# Altium integrated library Microchip Power Management PWM Controller.IntLib: 36 symbols
Pins are listed as number, name and electrical type; pins without a type are passive.

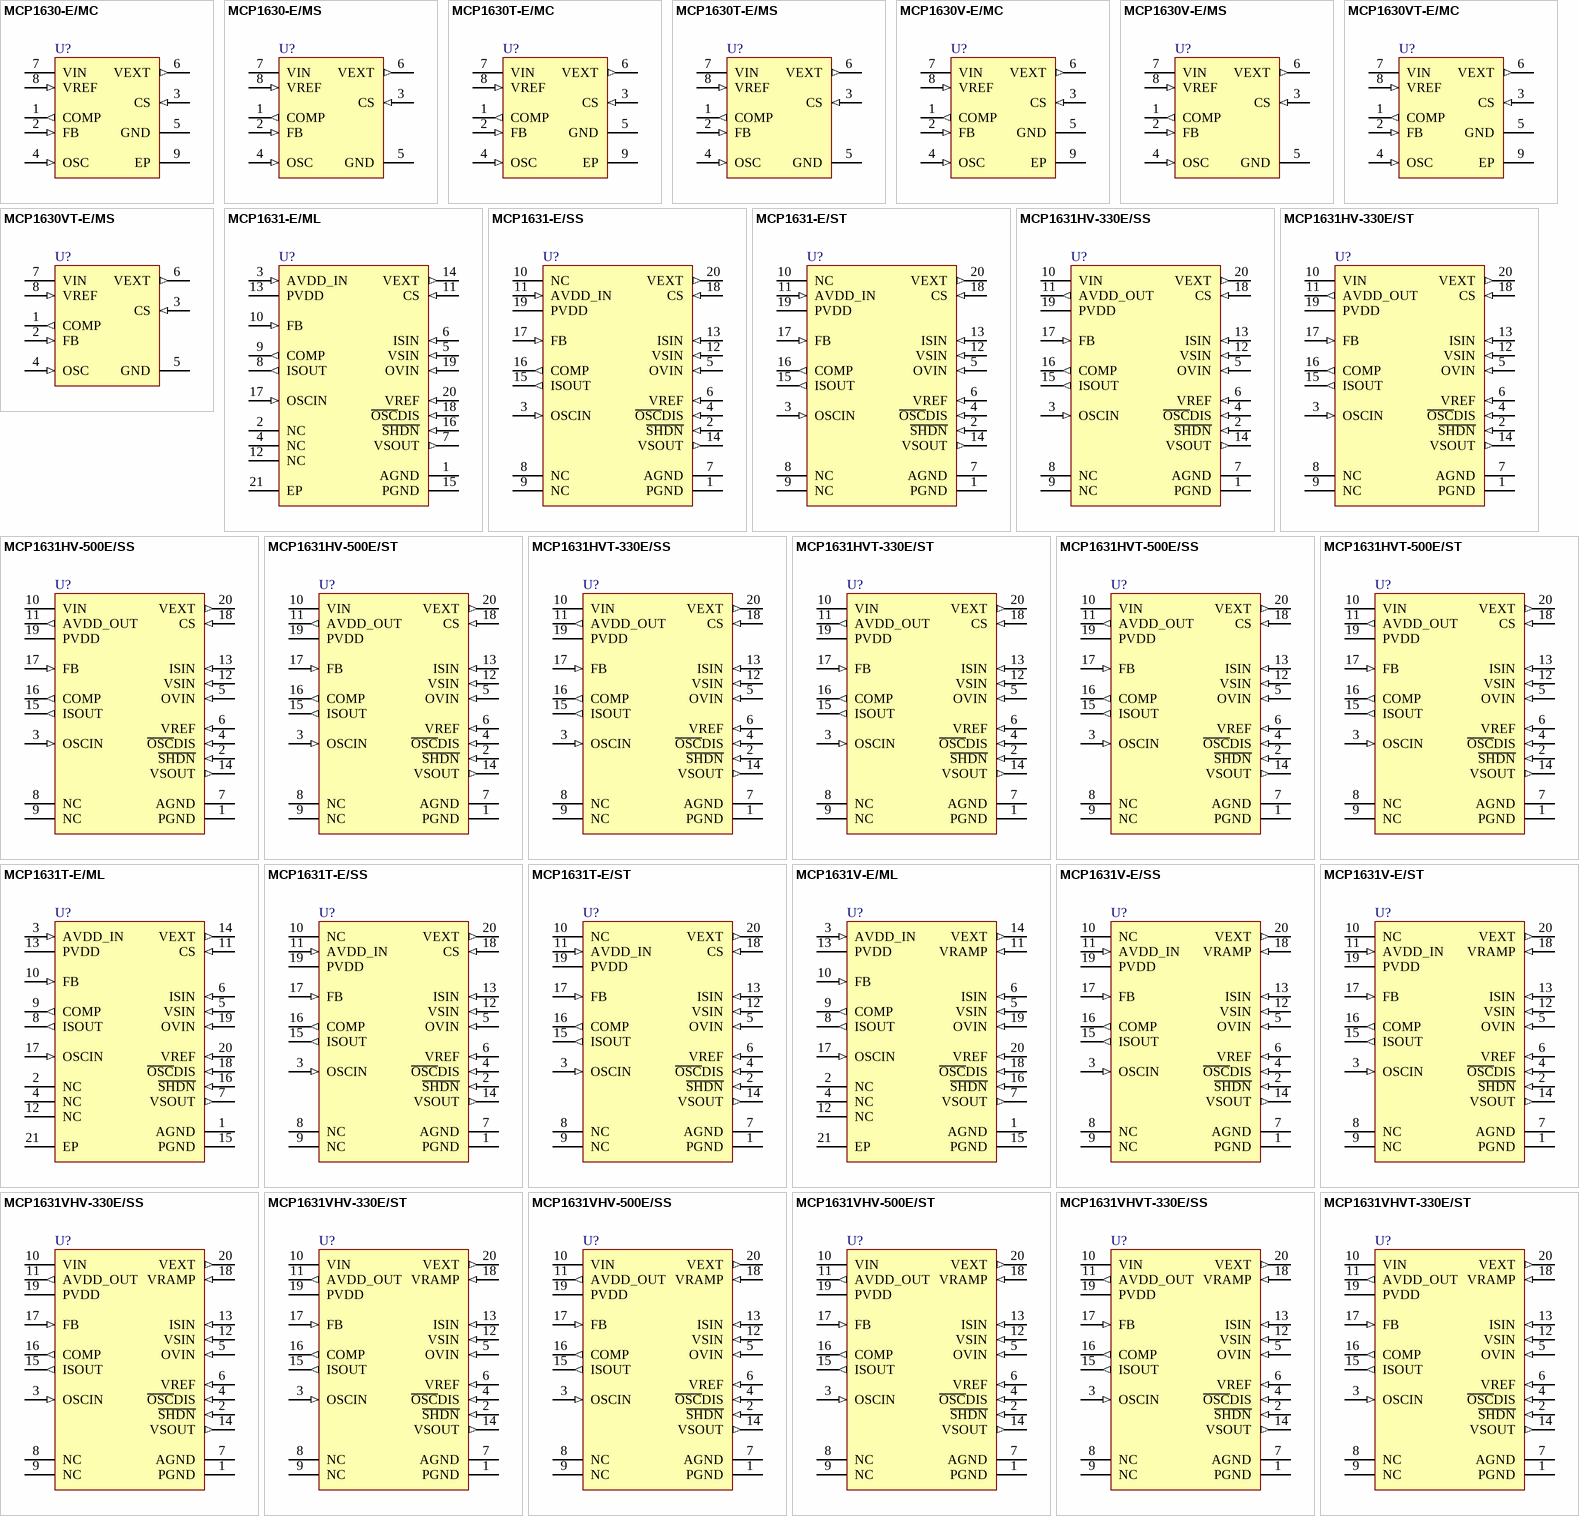
[diagram p0: symbols MCP1630-E/MC to MCP1631VHVT-330E/ST]

## MCP1630-E/MC
designator U?
High-Speed, Microcontroller-Adaptable, PWM, 8-Pin DFN, Extended Temperature; DatasheetVersion: revB, Jun-2005; PackageVersion: revBB, Aug-2009; PackageReference: DFN-MC8; PackageDescription: 8-Lead Plastic Dual Flat, No Lead Package (MC) - 2x3x0.9mm Body [DFN]; ComponentLink1Description: Manufacturer URL; ComponentLink1URL: http://www.microchip.com/; ComponentLink2Description: Datasheet; ComponentLink2URL: http://ww1.microchip.com/downloads/en/DeviceDoc/21896b.pdf; ComponentLink3Description: Package Specification; ComponentLink3URL: http://www.microchip.com/stellent/groups/techpub_sg/documents/packagingspec/en012702.pdf
footprint DFN-MC8 (SON, 8-Leads, Body 2x3mm, Pitch 0.5mm, Microchip Recommended)
pins: 1 COMP (out), 2 FB (in), 3 CS (in), 4 OSC (in), 5 GND (power), 6 VEXT (out), 7 VIN (power), 8 VREF (in), 9 EP (power)

## MCP1630-E/MS
designator U?
High-Speed, Microcontroller-Adaptable, PWM, 8-Pin MSOP, Extended Temperature; DatasheetVersion: revB, Jun-2005; PackageVersion: revBB, Aug-2009; PackageReference: MSOP-MS8; PackageDescription: 8-Lead Plastic Micro Small Outline Package (MS) [MSOP]; ComponentLink1Description: Manufacturer URL; ComponentLink1URL: http://www.microchip.com/; ComponentLink2Description: Datasheet; ComponentLink2URL: http://ww1.microchip.com/downloads/en/DeviceDoc/21896b.pdf; ComponentLink3Description: Package Specification; ComponentLink3URL: http://www.microchip.com/stellent/groups/techpub_sg/documents/packagingspec/en012702.pdf
footprint MSOP-MS8_N (TSOP, 8-Leads, Body 3x3mm, Pitch 0.65mm, IPC Medium Density)
footprint MSOP-MS8_L (TSOP, 8-Leads, Body 3x3mm, Pitch 0.65mm, IPC High Density)
footprint MSOP-MS8_M (TSOP, 8-Leads, Body 3x3mm, Pitch 0.65mm, IPC Low Density)
pins: 1 COMP (out), 2 FB (in), 3 CS (in), 4 OSC (in), 5 GND (power), 6 VEXT (out), 7 VIN (power), 8 VREF (in)

## MCP1630T-E/MC
designator U?
High-Speed, Microcontroller-Adaptable, PWM, 8-Pin DFN, Extended Temperature, Tape and Reel; DatasheetVersion: revB, Jun-2005; PackageVersion: revBB, Aug-2009; PackageReference: DFN-MC8; PackageDescription: 8-Lead Plastic Dual Flat, No Lead Package (MC) - 2x3x0.9mm Body [DFN]; ComponentLink1Description: Manufacturer URL; ComponentLink1URL: http://www.microchip.com/; ComponentLink2Description: Datasheet; ComponentLink2URL: http://ww1.microchip.com/downloads/en/DeviceDoc/21896b.pdf; ComponentLink3Description: Package Specification; ComponentLink3URL: http://www.microchip.com/stellent/groups/techpub_sg/documents/packagingspec/en012702.pdf
footprint DFN-MC8 (SON, 8-Leads, Body 2x3mm, Pitch 0.5mm, Microchip Recommended)
pins: 1 COMP (out), 2 FB (in), 3 CS (in), 4 OSC (in), 5 GND (power), 6 VEXT (out), 7 VIN (power), 8 VREF (in), 9 EP (power)

## MCP1630T-E/MS
designator U?
High-Speed, Microcontroller-Adaptable, PWM, 8-Pin MSOP, Extended Temperature, Tape and Reel; DatasheetVersion: revB, Jun-2005; PackageVersion: revBB, Aug-2009; PackageReference: MSOP-MS8; PackageDescription: 8-Lead Plastic Micro Small Outline Package (MS) [MSOP]; ComponentLink1Description: Manufacturer URL; ComponentLink1URL: http://www.microchip.com/; ComponentLink2Description: Datasheet; ComponentLink2URL: http://ww1.microchip.com/downloads/en/DeviceDoc/21896b.pdf; ComponentLink3Description: Package Specification; ComponentLink3URL: http://www.microchip.com/stellent/groups/techpub_sg/documents/packagingspec/en012702.pdf
footprint MSOP-MS8_N (TSOP, 8-Leads, Body 3x3mm, Pitch 0.65mm, IPC Medium Density)
footprint MSOP-MS8_L (TSOP, 8-Leads, Body 3x3mm, Pitch 0.65mm, IPC High Density)
footprint MSOP-MS8_M (TSOP, 8-Leads, Body 3x3mm, Pitch 0.65mm, IPC Low Density)
pins: 1 COMP (out), 2 FB (in), 3 CS (in), 4 OSC (in), 5 GND (power), 6 VEXT (out), 7 VIN (power), 8 VREF (in)

## MCP1630V-E/MC
designator U?
High-Speed, Microcontroller-Adaptable, PWM, Voltage & Current Mode Control, 8-Pin DFN, Extended Temperature; DatasheetVersion: revB, Jun-2005; PackageVersion: revBB, Aug-2009; PackageReference: DFN-MC8; PackageDescription: 8-Lead Plastic Dual Flat, No Lead Package (MC) - 2x3x0.9mm Body [DFN]; ComponentLink1Description: Manufacturer URL; ComponentLink1URL: http://www.microchip.com/; ComponentLink2Description: Datasheet; ComponentLink2URL: http://ww1.microchip.com/downloads/en/DeviceDoc/21896b.pdf; ComponentLink3Description: Package Specification; ComponentLink3URL: http://www.microchip.com/stellent/groups/techpub_sg/documents/packagingspec/en012702.pdf
footprint DFN-MC8 (SON, 8-Leads, Body 2x3mm, Pitch 0.5mm, Microchip Recommended)
pins: 1 COMP (out), 2 FB (in), 3 CS (in), 4 OSC (in), 5 GND (power), 6 VEXT (out), 7 VIN (power), 8 VREF (in), 9 EP (power)

## MCP1630V-E/MS
designator U?
High-Speed, Microcontroller-Adaptable, PWM, Voltage & Current Mode Control, 8-Pin MSOP, Extended Temperature; DatasheetVersion: revB, Jun-2005; PackageVersion: revBB, Aug-2009; PackageReference: MSOP-MS8; PackageDescription: 8-Lead Plastic Micro Small Outline Package (MS) [MSOP]; ComponentLink1Description: Manufacturer URL; ComponentLink1URL: http://www.microchip.com/; ComponentLink2Description: Datasheet; ComponentLink2URL: http://ww1.microchip.com/downloads/en/DeviceDoc/21896b.pdf; ComponentLink3Description: Package Specification; ComponentLink3URL: http://www.microchip.com/stellent/groups/techpub_sg/documents/packagingspec/en012702.pdf
footprint MSOP-MS8_N (TSOP, 8-Leads, Body 3x3mm, Pitch 0.65mm, IPC Medium Density)
footprint MSOP-MS8_L (TSOP, 8-Leads, Body 3x3mm, Pitch 0.65mm, IPC High Density)
footprint MSOP-MS8_M (TSOP, 8-Leads, Body 3x3mm, Pitch 0.65mm, IPC Low Density)
pins: 1 COMP (out), 2 FB (in), 3 CS (in), 4 OSC (in), 5 GND (power), 6 VEXT (out), 7 VIN (power), 8 VREF (in)

## MCP1630VT-E/MC
designator U?
High-Speed, Microcontroller-Adaptable, PWM, Voltage & Current Mode Control, 8-Pin DFN, Extended Temperature, Tape and Reel; DatasheetVersion: revB, Jun-2005; PackageVersion: revBB, Aug-2009; PackageReference: DFN-MC8; PackageDescription: 8-Lead Plastic Dual Flat, No Lead Package (MC) - 2x3x0.9mm Body [DFN]; ComponentLink1Description: Manufacturer URL; ComponentLink1URL: http://www.microchip.com/; ComponentLink2Description: Datasheet; ComponentLink2URL: http://ww1.microchip.com/downloads/en/DeviceDoc/21896b.pdf; ComponentLink3Description: Package Specification; ComponentLink3URL: http://www.microchip.com/stellent/groups/techpub_sg/documents/packagingspec/en012702.pdf
footprint DFN-MC8 (SON, 8-Leads, Body 2x3mm, Pitch 0.5mm, Microchip Recommended)
pins: 1 COMP (out), 2 FB (in), 3 CS (in), 4 OSC (in), 5 GND (power), 6 VEXT (out), 7 VIN (power), 8 VREF (in), 9 EP (power)

## MCP1630VT-E/MS
designator U?
High-Speed, Microcontroller-Adaptable, PWM, Voltage & Current Mode Control, 8-Pin MSOP, Extended Temperature, Tape and Reel; DatasheetVersion: revB, Jun-2005; PackageVersion: revBB, Aug-2009; PackageReference: MSOP-MS8; PackageDescription: 8-Lead Plastic Micro Small Outline Package (MS) [MSOP]; ComponentLink1Description: Manufacturer URL; ComponentLink1URL: http://www.microchip.com/; ComponentLink2Description: Datasheet; ComponentLink2URL: http://ww1.microchip.com/downloads/en/DeviceDoc/21896b.pdf; ComponentLink3Description: Package Specification; ComponentLink3URL: http://www.microchip.com/stellent/groups/techpub_sg/documents/packagingspec/en012702.pdf
footprint MSOP-MS8_N (TSOP, 8-Leads, Body 3x3mm, Pitch 0.65mm, IPC Medium Density)
footprint MSOP-MS8_L (TSOP, 8-Leads, Body 3x3mm, Pitch 0.65mm, IPC High Density)
footprint MSOP-MS8_M (TSOP, 8-Leads, Body 3x3mm, Pitch 0.65mm, IPC Low Density)
pins: 1 COMP (out), 2 FB (in), 3 CS (in), 4 OSC (in), 5 GND (power), 6 VEXT (out), 7 VIN (power), 8 VREF (in)

## MCP1631-E/ML
designator U?
High-Speed, PWM, 2MHz, Peak Current Mode Control, 20-Pin QFN, Extended Temperature; DatasheetVersion: revB, Oct-2008; PackageVersion: revBB, Aug-2009; PackageReference: QFN-ML20; PackageDescription: 20-Lead Plastic Quad Flat, No Lead Package (ML) - 4x4x0.9 mm Body [QFN]; ComponentLink1Description: Manufacturer URL; ComponentLink1URL: http://www.microchip.com/; ComponentLink2Description: Datasheet; ComponentLink2URL: http://ww1.microchip.com/downloads/en/DeviceDoc/22063b.pdf; ComponentLink3Description: Package Specification; ComponentLink3URL: http://www.microchip.com/stellent/groups/techpub_sg/documents/packagingspec/en012702.pdf
footprint QFN-ML20_N (QFN, 20-Leads, Body 4x4mm, Pitch 0.5mm, Thermal Pad 2.8x2.8mm, IPC Medium Density)
footprint QFN-ML20_L (QFN, 20-Leads, Body 4x4mm, Pitch 0.5mm, Thermal Pad 2.8x2.8mm, IPC High Density)
footprint QFN-ML20_M (QFN, 20-Leads, Body 4x4mm, Pitch 0.5mm, Thermal Pad 2.8x2.8mm, IPC Low Density)
pins: 1 AGND (power), 2 NC, 3 AVDD_IN (in), 4 NC, 5 VSIN (in), 6 ISIN (in), 7 VSOUT (out), 8 ISOUT (out), 9 COMP (out), 10 FB (in), 11 CS (in), 12 NC, 13 PVDD (power), 14 VEXT (out), 15 PGND (power), 16 ~{SHDN} (in), 17 OSCIN (in), 18 ~{OSC}DIS (in), 19 OVIN (in), 20 VREF (in), 21 EP (power)

## MCP1631-E/SS
designator U?
High-Speed, PWM, 2MHz, Peak Current Mode Control, 20-Pin SSOP 208mil, Extended Temperature; DatasheetVersion: revB, Oct-2008; PackageVersion: revBB, Aug-2009; PackageReference: SSOP-SS20; PackageDescription: 20-Lead Plastic Shrink Small Outline (SS) - 5.3mm Body [SSOP]; Code_JEDEC: MO-150; ComponentLink1Description: Manufacturer URL; ComponentLink1URL: http://www.microchip.com/; ComponentLink2Description: Datasheet; ComponentLink2URL: http://ww1.microchip.com/downloads/en/DeviceDoc/22063b.pdf; ComponentLink3Description: Package Specification; ComponentLink3URL: http://www.microchip.com/stellent/groups/techpub_sg/documents/packagingspec/en012702.pdf
footprint SSOP-SS20_N (SOP, 20-Leads, Body 7.2x5.2mm, Pitch 0.65mm, IPC Medium Density)
footprint SSOP-SS20_L (SOP, 20-Leads, Body 7.2x5.2mm, Pitch 0.65mm, IPC High Density)
footprint SSOP-SS20_M (SOP, 20-Leads, Body 7.2x5.2mm, Pitch 0.65mm, IPC Low Density)
pins: 1 PGND (power), 2 ~{SHDN} (in), 3 OSCIN (in), 4 ~{OSC}DIS (in), 5 OVIN (in), 6 VREF (in), 7 AGND (power), 8 NC, 9 NC, 10 NC, 11 AVDD_IN (in), 12 VSIN (in), 13 ISIN (in), 14 VSOUT (out), 15 ISOUT (out), 16 COMP (out), 17 FB (in), 18 CS (in), 19 PVDD (power), 20 VEXT (out)

## MCP1631-E/ST
designator U?
High-Speed, PWM, 2MHz, Peak Current Mode Control, 20-Pin TSSOP, Extended Temperature; DatasheetVersion: revB, Oct-2008; PackageVersion: revBB, Aug-2009; PackageReference: TSSOP-ST20; PackageDescription: 20-Lead Plastic Thin Shrink Small Outline (ST) - 4.4mm Body [TSSOP]; Code_JEDEC: MO-153-AC; ComponentLink1Description: Manufacturer URL; ComponentLink1URL: http://www.microchip.com/; ComponentLink2Description: Datasheet; ComponentLink2URL: http://ww1.microchip.com/downloads/en/DeviceDoc/22063b.pdf; ComponentLink3Description: Package Specification; ComponentLink3URL: http://www.microchip.com/stellent/groups/techpub_sg/documents/packagingspec/en012702.pdf
footprint TSSOP-ST20_N (TSOP, 20-Leads, Body 6.5x4.4mm, Pitch 0.65mm, IPC Medium Density)
footprint TSSOP-ST20_L (TSOP, 20-Leads, Body 6.5x4.4mm, Pitch 0.65mm, IPC High Density)
footprint TSSOP-ST20_M (TSOP, 20-Leads, Body 6.5x4.4mm, Pitch 0.65mm, IPC Low Density)
pins: 1 PGND (power), 2 ~{SHDN} (in), 3 OSCIN (in), 4 ~{OSC}DIS (in), 5 OVIN (in), 6 VREF (in), 7 AGND (power), 8 NC, 9 NC, 10 NC, 11 AVDD_IN (in), 12 VSIN (in), 13 ISIN (in), 14 VSOUT (out), 15 ISOUT (out), 16 COMP (out), 17 FB (in), 18 CS (in), 19 PVDD (power), 20 VEXT (out)

## MCP1631HV-330E/SS
designator U?
High-Speed, PWM, 2MHz, Current Mode, 20-Pin SSOP 208mil, Extended Temperature; DatasheetVersion: revB, Oct-2008; PackageVersion: revBB, Aug-2009; PackageReference: SSOP-SS20; PackageDescription: 20-Lead Plastic Shrink Small Outline (SS) - 5.3mm Body [SSOP]; Code_JEDEC: MO-150; ComponentLink1Description: Manufacturer URL; ComponentLink1URL: http://www.microchip.com/; ComponentLink2Description: Datasheet; ComponentLink2URL: http://ww1.microchip.com/downloads/en/DeviceDoc/22063b.pdf; ComponentLink3Description: Package Specification; ComponentLink3URL: http://www.microchip.com/stellent/groups/techpub_sg/documents/packagingspec/en012702.pdf
footprint SSOP-SS20_N (SOP, 20-Leads, Body 7.2x5.2mm, Pitch 0.65mm, IPC Medium Density)
footprint SSOP-SS20_L (SOP, 20-Leads, Body 7.2x5.2mm, Pitch 0.65mm, IPC High Density)
footprint SSOP-SS20_M (SOP, 20-Leads, Body 7.2x5.2mm, Pitch 0.65mm, IPC Low Density)
pins: 1 PGND (power), 2 ~{SHDN} (in), 3 OSCIN (in), 4 ~{OSC}DIS (in), 5 OVIN (in), 6 VREF (in), 7 AGND (power), 8 NC, 9 NC, 10 VIN (power), 11 AVDD_OUT (out), 12 VSIN (in), 13 ISIN (in), 14 VSOUT (out), 15 ISOUT (out), 16 COMP (out), 17 FB (in), 18 CS (in), 19 PVDD (power), 20 VEXT (out)

## MCP1631HV-330E/ST
designator U?
High-Speed, PWM, 2MHz, Current Mode, 20-Pin TSSOP, Extended Temperature; DatasheetVersion: revB, Oct-2008; PackageVersion: revBB, Aug-2009; PackageReference: TSSOP-ST20; PackageDescription: 20-Lead Plastic Thin Shrink Small Outline (ST) - 4.4mm Body [TSSOP]; Code_JEDEC: MO-153-AC; ComponentLink1Description: Manufacturer URL; ComponentLink1URL: http://www.microchip.com/; ComponentLink2Description: Datasheet; ComponentLink2URL: http://ww1.microchip.com/downloads/en/DeviceDoc/22063b.pdf; ComponentLink3Description: Package Specification; ComponentLink3URL: http://www.microchip.com/stellent/groups/techpub_sg/documents/packagingspec/en012702.pdf
footprint TSSOP-ST20_N (TSOP, 20-Leads, Body 6.5x4.4mm, Pitch 0.65mm, IPC Medium Density)
footprint TSSOP-ST20_L (TSOP, 20-Leads, Body 6.5x4.4mm, Pitch 0.65mm, IPC High Density)
footprint TSSOP-ST20_M (TSOP, 20-Leads, Body 6.5x4.4mm, Pitch 0.65mm, IPC Low Density)
pins: 1 PGND (power), 2 ~{SHDN} (in), 3 OSCIN (in), 4 ~{OSC}DIS (in), 5 OVIN (in), 6 VREF (in), 7 AGND (power), 8 NC, 9 NC, 10 VIN (power), 11 AVDD_OUT (out), 12 VSIN (in), 13 ISIN (in), 14 VSOUT (out), 15 ISOUT (out), 16 COMP (out), 17 FB (in), 18 CS (in), 19 PVDD (power), 20 VEXT (out)

## MCP1631HV-500E/SS
designator U?
High-Speed, PWM, 2MHz, Current Mode, 20-Pin SSOP 208mil, Extended Temperature; DatasheetVersion: revB, Oct-2008; PackageVersion: revBB, Aug-2009; PackageReference: SSOP-SS20; PackageDescription: 20-Lead Plastic Shrink Small Outline (SS) - 5.3mm Body [SSOP]; Code_JEDEC: MO-150; ComponentLink1Description: Manufacturer URL; ComponentLink1URL: http://www.microchip.com/; ComponentLink2Description: Datasheet; ComponentLink2URL: http://ww1.microchip.com/downloads/en/DeviceDoc/22063b.pdf; ComponentLink3Description: Package Specification; ComponentLink3URL: http://www.microchip.com/stellent/groups/techpub_sg/documents/packagingspec/en012702.pdf
footprint SSOP-SS20_N (SOP, 20-Leads, Body 7.2x5.2mm, Pitch 0.65mm, IPC Medium Density)
footprint SSOP-SS20_L (SOP, 20-Leads, Body 7.2x5.2mm, Pitch 0.65mm, IPC High Density)
footprint SSOP-SS20_M (SOP, 20-Leads, Body 7.2x5.2mm, Pitch 0.65mm, IPC Low Density)
pins: 1 PGND (power), 2 ~{SHDN} (in), 3 OSCIN (in), 4 ~{OSC}DIS (in), 5 OVIN (in), 6 VREF (in), 7 AGND (power), 8 NC, 9 NC, 10 VIN (power), 11 AVDD_OUT (out), 12 VSIN (in), 13 ISIN (in), 14 VSOUT (out), 15 ISOUT (out), 16 COMP (out), 17 FB (in), 18 CS (in), 19 PVDD (power), 20 VEXT (out)

## MCP1631HV-500E/ST
designator U?
High-Speed, PWM, 2MHz, Current Mode, 20-Pin TSSOP, Extended Temperature; DatasheetVersion: revB, Oct-2008; PackageVersion: revBB, Aug-2009; PackageReference: TSSOP-ST20; PackageDescription: 20-Lead Plastic Thin Shrink Small Outline (ST) - 4.4mm Body [TSSOP]; Code_JEDEC: MO-153-AC; ComponentLink1Description: Manufacturer URL; ComponentLink1URL: http://www.microchip.com/; ComponentLink2Description: Datasheet; ComponentLink2URL: http://ww1.microchip.com/downloads/en/DeviceDoc/22063b.pdf; ComponentLink3Description: Package Specification; ComponentLink3URL: http://www.microchip.com/stellent/groups/techpub_sg/documents/packagingspec/en012702.pdf
footprint TSSOP-ST20_N (TSOP, 20-Leads, Body 6.5x4.4mm, Pitch 0.65mm, IPC Medium Density)
footprint TSSOP-ST20_L (TSOP, 20-Leads, Body 6.5x4.4mm, Pitch 0.65mm, IPC High Density)
footprint TSSOP-ST20_M (TSOP, 20-Leads, Body 6.5x4.4mm, Pitch 0.65mm, IPC Low Density)
pins: 1 PGND (power), 2 ~{SHDN} (in), 3 OSCIN (in), 4 ~{OSC}DIS (in), 5 OVIN (in), 6 VREF (in), 7 AGND (power), 8 NC, 9 NC, 10 VIN (power), 11 AVDD_OUT (out), 12 VSIN (in), 13 ISIN (in), 14 VSOUT (out), 15 ISOUT (out), 16 COMP (out), 17 FB (in), 18 CS (in), 19 PVDD (power), 20 VEXT (out)

## MCP1631HVT-330E/SS
designator U?
High-Speed, PWM, 2MHz, Current Mode, 20-Pin SSOP 208mil, Extended Temperature, Tape and Reel; DatasheetVersion: revB, Oct-2008; PackageVersion: revBB, Aug-2009; PackageReference: SSOP-SS20; PackageDescription: 20-Lead Plastic Shrink Small Outline (SS) - 5.3mm Body [SSOP]; Code_JEDEC: MO-150; ComponentLink1Description: Manufacturer URL; ComponentLink1URL: http://www.microchip.com/; ComponentLink2Description: Datasheet; ComponentLink2URL: http://ww1.microchip.com/downloads/en/DeviceDoc/22063b.pdf; ComponentLink3Description: Package Specification; ComponentLink3URL: http://www.microchip.com/stellent/groups/techpub_sg/documents/packagingspec/en012702.pdf
footprint SSOP-SS20_N (SOP, 20-Leads, Body 7.2x5.2mm, Pitch 0.65mm, IPC Medium Density)
footprint SSOP-SS20_L (SOP, 20-Leads, Body 7.2x5.2mm, Pitch 0.65mm, IPC High Density)
footprint SSOP-SS20_M (SOP, 20-Leads, Body 7.2x5.2mm, Pitch 0.65mm, IPC Low Density)
pins: 1 PGND (power), 2 ~{SHDN} (in), 3 OSCIN (in), 4 ~{OSC}DIS (in), 5 OVIN (in), 6 VREF (in), 7 AGND (power), 8 NC, 9 NC, 10 VIN (power), 11 AVDD_OUT (out), 12 VSIN (in), 13 ISIN (in), 14 VSOUT (out), 15 ISOUT (out), 16 COMP (out), 17 FB (in), 18 CS (in), 19 PVDD (power), 20 VEXT (out)

## MCP1631HVT-330E/ST
designator U?
High-Speed, PWM, 2MHz, Current Mode, 20-Pin TSSOP, Extended Temperature, Tape and Reel; DatasheetVersion: revB, Oct-2008; PackageVersion: revBB, Aug-2009; PackageReference: TSSOP-ST20; PackageDescription: 20-Lead Plastic Thin Shrink Small Outline (ST) - 4.4mm Body [TSSOP]; Code_JEDEC: MO-153-AC; ComponentLink1Description: Manufacturer URL; ComponentLink1URL: http://www.microchip.com/; ComponentLink2Description: Datasheet; ComponentLink2URL: http://ww1.microchip.com/downloads/en/DeviceDoc/22063b.pdf; ComponentLink3Description: Package Specification; ComponentLink3URL: http://www.microchip.com/stellent/groups/techpub_sg/documents/packagingspec/en012702.pdf
footprint TSSOP-ST20_N (TSOP, 20-Leads, Body 6.5x4.4mm, Pitch 0.65mm, IPC Medium Density)
footprint TSSOP-ST20_L (TSOP, 20-Leads, Body 6.5x4.4mm, Pitch 0.65mm, IPC High Density)
footprint TSSOP-ST20_M (TSOP, 20-Leads, Body 6.5x4.4mm, Pitch 0.65mm, IPC Low Density)
pins: 1 PGND (power), 2 ~{SHDN} (in), 3 OSCIN (in), 4 ~{OSC}DIS (in), 5 OVIN (in), 6 VREF (in), 7 AGND (power), 8 NC, 9 NC, 10 VIN (power), 11 AVDD_OUT (out), 12 VSIN (in), 13 ISIN (in), 14 VSOUT (out), 15 ISOUT (out), 16 COMP (out), 17 FB (in), 18 CS (in), 19 PVDD (power), 20 VEXT (out)

## MCP1631HVT-500E/SS
designator U?
High-Speed, PWM, 2MHz, Current Mode, 20-Pin SSOP 208mil, Extended Temperature, Tape and Reel; DatasheetVersion: revB, Oct-2008; PackageVersion: revBB, Aug-2009; PackageReference: SSOP-SS20; PackageDescription: 20-Lead Plastic Shrink Small Outline (SS) - 5.3mm Body [SSOP]; Code_JEDEC: MO-150; ComponentLink1Description: Manufacturer URL; ComponentLink1URL: http://www.microchip.com/; ComponentLink2Description: Datasheet; ComponentLink2URL: http://ww1.microchip.com/downloads/en/DeviceDoc/22063b.pdf; ComponentLink3Description: Package Specification; ComponentLink3URL: http://www.microchip.com/stellent/groups/techpub_sg/documents/packagingspec/en012702.pdf
footprint SSOP-SS20_N (SOP, 20-Leads, Body 7.2x5.2mm, Pitch 0.65mm, IPC Medium Density)
footprint SSOP-SS20_L (SOP, 20-Leads, Body 7.2x5.2mm, Pitch 0.65mm, IPC High Density)
footprint SSOP-SS20_M (SOP, 20-Leads, Body 7.2x5.2mm, Pitch 0.65mm, IPC Low Density)
pins: 1 PGND (power), 2 ~{SHDN} (in), 3 OSCIN (in), 4 ~{OSC}DIS (in), 5 OVIN (in), 6 VREF (in), 7 AGND (power), 8 NC, 9 NC, 10 VIN (power), 11 AVDD_OUT (out), 12 VSIN (in), 13 ISIN (in), 14 VSOUT (out), 15 ISOUT (out), 16 COMP (out), 17 FB (in), 18 CS (in), 19 PVDD (power), 20 VEXT (out)

## MCP1631HVT-500E/ST
designator U?
High-Speed, PWM, 2MHz, Current Mode, 20-Pin TSSOP, Extended Temperature, Tape and Reel; DatasheetVersion: revB, Oct-2008; PackageVersion: revBB, Aug-2009; PackageReference: TSSOP-ST20; PackageDescription: 20-Lead Plastic Thin Shrink Small Outline (ST) - 4.4mm Body [TSSOP]; Code_JEDEC: MO-153-AC; ComponentLink1Description: Manufacturer URL; ComponentLink1URL: http://www.microchip.com/; ComponentLink2Description: Datasheet; ComponentLink2URL: http://ww1.microchip.com/downloads/en/DeviceDoc/22063b.pdf; ComponentLink3Description: Package Specification; ComponentLink3URL: http://www.microchip.com/stellent/groups/techpub_sg/documents/packagingspec/en012702.pdf
footprint TSSOP-ST20_N (TSOP, 20-Leads, Body 6.5x4.4mm, Pitch 0.65mm, IPC Medium Density)
footprint TSSOP-ST20_L (TSOP, 20-Leads, Body 6.5x4.4mm, Pitch 0.65mm, IPC High Density)
footprint TSSOP-ST20_M (TSOP, 20-Leads, Body 6.5x4.4mm, Pitch 0.65mm, IPC Low Density)
pins: 1 PGND (power), 2 ~{SHDN} (in), 3 OSCIN (in), 4 ~{OSC}DIS (in), 5 OVIN (in), 6 VREF (in), 7 AGND (power), 8 NC, 9 NC, 10 VIN (power), 11 AVDD_OUT (out), 12 VSIN (in), 13 ISIN (in), 14 VSOUT (out), 15 ISOUT (out), 16 COMP (out), 17 FB (in), 18 CS (in), 19 PVDD (power), 20 VEXT (out)

## MCP1631T-E/ML
designator U?
High-Speed, PWM, 2MHz, Peak Current Mode Control, 20-Pin QFN, Extended Temperature, Tape and Reel; DatasheetVersion: revB, Oct-2008; PackageVersion: revBB, Aug-2009; PackageReference: QFN-ML20; PackageDescription: 20-Lead Plastic Quad Flat, No Lead Package (ML) - 4x4x0.9 mm Body [QFN]; ComponentLink1Description: Manufacturer URL; ComponentLink1URL: http://www.microchip.com/; ComponentLink2Description: Datasheet; ComponentLink2URL: http://ww1.microchip.com/downloads/en/DeviceDoc/22063b.pdf; ComponentLink3Description: Package Specification; ComponentLink3URL: http://www.microchip.com/stellent/groups/techpub_sg/documents/packagingspec/en012702.pdf
footprint QFN-ML20_N (QFN, 20-Leads, Body 4x4mm, Pitch 0.5mm, Thermal Pad 2.8x2.8mm, IPC Medium Density)
footprint QFN-ML20_L (QFN, 20-Leads, Body 4x4mm, Pitch 0.5mm, Thermal Pad 2.8x2.8mm, IPC High Density)
footprint QFN-ML20_M (QFN, 20-Leads, Body 4x4mm, Pitch 0.5mm, Thermal Pad 2.8x2.8mm, IPC Low Density)
pins: 1 AGND (power), 2 NC, 3 AVDD_IN (in), 4 NC, 5 VSIN (in), 6 ISIN (in), 7 VSOUT (out), 8 ISOUT (out), 9 COMP (out), 10 FB (in), 11 CS (in), 12 NC, 13 PVDD (power), 14 VEXT (out), 15 PGND (power), 16 ~{SHDN} (in), 17 OSCIN (in), 18 ~{OSC}DIS (in), 19 OVIN (in), 20 VREF (in), 21 EP (power)

## MCP1631T-E/SS
designator U?
High-Speed, PWM, 2MHz, Peak Current Mode Control, 20-Pin SSOP 208mil, Extended Temperature, Tape and Reel; DatasheetVersion: revB, Oct-2008; PackageVersion: revBB, Aug-2009; PackageReference: SSOP-SS20; PackageDescription: 20-Lead Plastic Shrink Small Outline (SS) - 5.3mm Body [SSOP]; Code_JEDEC: MO-150; ComponentLink1Description: Manufacturer URL; ComponentLink1URL: http://www.microchip.com/; ComponentLink2Description: Datasheet; ComponentLink2URL: http://ww1.microchip.com/downloads/en/DeviceDoc/22063b.pdf; ComponentLink3Description: Package Specification; ComponentLink3URL: http://www.microchip.com/stellent/groups/techpub_sg/documents/packagingspec/en012702.pdf
footprint SSOP-SS20_N (SOP, 20-Leads, Body 7.2x5.2mm, Pitch 0.65mm, IPC Medium Density)
footprint SSOP-SS20_L (SOP, 20-Leads, Body 7.2x5.2mm, Pitch 0.65mm, IPC High Density)
footprint SSOP-SS20_M (SOP, 20-Leads, Body 7.2x5.2mm, Pitch 0.65mm, IPC Low Density)
pins: 1 PGND (power), 2 ~{SHDN} (in), 3 OSCIN (in), 4 ~{OSC}DIS (in), 5 OVIN (in), 6 VREF (in), 7 AGND (power), 8 NC, 9 NC, 10 NC, 11 AVDD_IN (in), 12 VSIN (in), 13 ISIN (in), 14 VSOUT (out), 15 ISOUT (out), 16 COMP (out), 17 FB (in), 18 CS (in), 19 PVDD (power), 20 VEXT (out)

## MCP1631T-E/ST
designator U?
High-Speed, PWM, 2MHz, Peak Current Mode Control, 20-Pin TSSOP, Extended Temperature, Tape and Reel; DatasheetVersion: revB, Oct-2008; PackageVersion: revBB, Aug-2009; PackageReference: TSSOP-ST20; PackageDescription: 20-Lead Plastic Thin Shrink Small Outline (ST) - 4.4mm Body [TSSOP]; Code_JEDEC: MO-153-AC; ComponentLink1Description: Manufacturer URL; ComponentLink1URL: http://www.microchip.com/; ComponentLink2Description: Datasheet; ComponentLink2URL: http://ww1.microchip.com/downloads/en/DeviceDoc/22063b.pdf; ComponentLink3Description: Package Specification; ComponentLink3URL: http://www.microchip.com/stellent/groups/techpub_sg/documents/packagingspec/en012702.pdf
footprint TSSOP-ST20_N (TSOP, 20-Leads, Body 6.5x4.4mm, Pitch 0.65mm, IPC Medium Density)
footprint TSSOP-ST20_L (TSOP, 20-Leads, Body 6.5x4.4mm, Pitch 0.65mm, IPC High Density)
footprint TSSOP-ST20_M (TSOP, 20-Leads, Body 6.5x4.4mm, Pitch 0.65mm, IPC Low Density)
pins: 1 PGND (power), 2 ~{SHDN} (in), 3 OSCIN (in), 4 ~{OSC}DIS (in), 5 OVIN (in), 6 VREF (in), 7 AGND (power), 8 NC, 9 NC, 10 NC, 11 AVDD_IN (in), 12 VSIN (in), 13 ISIN (in), 14 VSOUT (out), 15 ISOUT (out), 16 COMP (out), 17 FB (in), 18 CS (in), 19 PVDD (power), 20 VEXT (out)

## MCP1631V-E/ML
designator U?
High-Speed, PWM, 2MHz, Voltage Mode Control, 20-Pin QFN, Extended Temperature; DatasheetVersion: revB, Oct-2008; PackageVersion: revBB, Aug-2009; PackageReference: QFN-ML20; PackageDescription: 20-Lead Plastic Quad Flat, No Lead Package (ML) - 4x4x0.9 mm Body [QFN]; ComponentLink1Description: Manufacturer URL; ComponentLink1URL: http://www.microchip.com/; ComponentLink2Description: Datasheet; ComponentLink2URL: http://ww1.microchip.com/downloads/en/DeviceDoc/22063b.pdf; ComponentLink3Description: Package Specification; ComponentLink3URL: http://www.microchip.com/stellent/groups/techpub_sg/documents/packagingspec/en012702.pdf
footprint QFN-ML20_N (QFN, 20-Leads, Body 4x4mm, Pitch 0.5mm, Thermal Pad 2.8x2.8mm, IPC Medium Density)
footprint QFN-ML20_L (QFN, 20-Leads, Body 4x4mm, Pitch 0.5mm, Thermal Pad 2.8x2.8mm, IPC High Density)
footprint QFN-ML20_M (QFN, 20-Leads, Body 4x4mm, Pitch 0.5mm, Thermal Pad 2.8x2.8mm, IPC Low Density)
pins: 1 AGND (power), 2 NC, 3 AVDD_IN (in), 4 NC, 5 VSIN (in), 6 ISIN (in), 7 VSOUT (out), 8 ISOUT (out), 9 COMP (out), 10 FB (in), 11 VRAMP (in), 12 NC, 13 PVDD (power), 14 VEXT (out), 15 PGND (power), 16 ~{SHDN} (in), 17 OSCIN (in), 18 ~{OSC}DIS (in), 19 OVIN (in), 20 VREF (in), 21 EP (power)

## MCP1631V-E/SS
designator U?
High-Speed, PWM, 2MHz, Voltage Mode Control, 20-Pin SSOP 208mil, Extended Temperature; DatasheetVersion: revB, Oct-2008; PackageVersion: revBB, Aug-2009; PackageReference: SSOP-SS20; PackageDescription: 20-Lead Plastic Shrink Small Outline (SS) - 5.3mm Body [SSOP]; Code_JEDEC: MO-150; ComponentLink1Description: Manufacturer URL; ComponentLink1URL: http://www.microchip.com/; ComponentLink2Description: Datasheet; ComponentLink2URL: http://ww1.microchip.com/downloads/en/DeviceDoc/22063b.pdf; ComponentLink3Description: Package Specification; ComponentLink3URL: http://www.microchip.com/stellent/groups/techpub_sg/documents/packagingspec/en012702.pdf
footprint SSOP-SS20_N (SOP, 20-Leads, Body 7.2x5.2mm, Pitch 0.65mm, IPC Medium Density)
footprint SSOP-SS20_L (SOP, 20-Leads, Body 7.2x5.2mm, Pitch 0.65mm, IPC High Density)
footprint SSOP-SS20_M (SOP, 20-Leads, Body 7.2x5.2mm, Pitch 0.65mm, IPC Low Density)
pins: 1 PGND (power), 2 ~{SHDN} (in), 3 OSCIN (in), 4 ~{OSC}DIS (in), 5 OVIN (in), 6 VREF (in), 7 AGND (power), 8 NC, 9 NC, 10 NC, 11 AVDD_IN (in), 12 VSIN (in), 13 ISIN (in), 14 VSOUT (out), 15 ISOUT (out), 16 COMP (out), 17 FB (in), 18 VRAMP (in), 19 PVDD (power), 20 VEXT (out)

## MCP1631V-E/ST
designator U?
High-Speed, PWM, 2MHz, Voltage Mode Control, 20-Pin TSSOP, Extended Temperature; DatasheetVersion: revB, Oct-2008; PackageVersion: revBB, Aug-2009; PackageReference: TSSOP-ST20; PackageDescription: 20-Lead Plastic Thin Shrink Small Outline (ST) - 4.4mm Body [TSSOP]; Code_JEDEC: MO-153-AC; ComponentLink1Description: Manufacturer URL; ComponentLink1URL: http://www.microchip.com/; ComponentLink2Description: Datasheet; ComponentLink2URL: http://ww1.microchip.com/downloads/en/DeviceDoc/22063b.pdf; ComponentLink3Description: Package Specification; ComponentLink3URL: http://www.microchip.com/stellent/groups/techpub_sg/documents/packagingspec/en012702.pdf
footprint TSSOP-ST20_N (TSOP, 20-Leads, Body 6.5x4.4mm, Pitch 0.65mm, IPC Medium Density)
footprint TSSOP-ST20_L (TSOP, 20-Leads, Body 6.5x4.4mm, Pitch 0.65mm, IPC High Density)
footprint TSSOP-ST20_M (TSOP, 20-Leads, Body 6.5x4.4mm, Pitch 0.65mm, IPC Low Density)
pins: 1 PGND (power), 2 ~{SHDN} (in), 3 OSCIN (in), 4 ~{OSC}DIS (in), 5 OVIN (in), 6 VREF (in), 7 AGND (power), 8 NC, 9 NC, 10 NC, 11 AVDD_IN (in), 12 VSIN (in), 13 ISIN (in), 14 VSOUT (out), 15 ISOUT (out), 16 COMP (out), 17 FB (in), 18 VRAMP (in), 19 PVDD (power), 20 VEXT (out)

## MCP1631VHV-330E/SS
designator U?
High-Speed, PWM, 2MHz, Voltage Mode, 20-Pin SSOP 208mil, Extended Temperature; DatasheetVersion: revB, Oct-2008; PackageVersion: revBB, Aug-2009; PackageReference: SSOP-SS20; PackageDescription: 20-Lead Plastic Shrink Small Outline (SS) - 5.3mm Body [SSOP]; Code_JEDEC: MO-150; ComponentLink1Description: Manufacturer URL; ComponentLink1URL: http://www.microchip.com/; ComponentLink2Description: Datasheet; ComponentLink2URL: http://ww1.microchip.com/downloads/en/DeviceDoc/22063b.pdf; ComponentLink3Description: Package Specification; ComponentLink3URL: http://www.microchip.com/stellent/groups/techpub_sg/documents/packagingspec/en012702.pdf
footprint SSOP-SS20_N (SOP, 20-Leads, Body 7.2x5.2mm, Pitch 0.65mm, IPC Medium Density)
footprint SSOP-SS20_L (SOP, 20-Leads, Body 7.2x5.2mm, Pitch 0.65mm, IPC High Density)
footprint SSOP-SS20_M (SOP, 20-Leads, Body 7.2x5.2mm, Pitch 0.65mm, IPC Low Density)
pins: 1 PGND (power), 2 ~{SHDN} (in), 3 OSCIN (in), 4 ~{OSC}DIS (in), 5 OVIN (in), 6 VREF (in), 7 AGND (power), 8 NC, 9 NC, 10 VIN (power), 11 AVDD_OUT (out), 12 VSIN (in), 13 ISIN (in), 14 VSOUT (out), 15 ISOUT (out), 16 COMP (out), 17 FB (in), 18 VRAMP (in), 19 PVDD (power), 20 VEXT (out)

## MCP1631VHV-330E/ST
designator U?
High-Speed, PWM, 2MHz, Voltage Mode, 20-Pin TSSOP, Extended Temperature; DatasheetVersion: revB, Oct-2008; PackageVersion: revBB, Aug-2009; PackageReference: TSSOP-ST20; PackageDescription: 20-Lead Plastic Thin Shrink Small Outline (ST) - 4.4mm Body [TSSOP]; Code_JEDEC: MO-153-AC; ComponentLink1Description: Manufacturer URL; ComponentLink1URL: http://www.microchip.com/; ComponentLink2Description: Datasheet; ComponentLink2URL: http://ww1.microchip.com/downloads/en/DeviceDoc/22063b.pdf; ComponentLink3Description: Package Specification; ComponentLink3URL: http://www.microchip.com/stellent/groups/techpub_sg/documents/packagingspec/en012702.pdf
footprint TSSOP-ST20_N (TSOP, 20-Leads, Body 6.5x4.4mm, Pitch 0.65mm, IPC Medium Density)
footprint TSSOP-ST20_L (TSOP, 20-Leads, Body 6.5x4.4mm, Pitch 0.65mm, IPC High Density)
footprint TSSOP-ST20_M (TSOP, 20-Leads, Body 6.5x4.4mm, Pitch 0.65mm, IPC Low Density)
pins: 1 PGND (power), 2 ~{SHDN} (in), 3 OSCIN (in), 4 ~{OSC}DIS (in), 5 OVIN (in), 6 VREF (in), 7 AGND (power), 8 NC, 9 NC, 10 VIN (power), 11 AVDD_OUT (out), 12 VSIN (in), 13 ISIN (in), 14 VSOUT (out), 15 ISOUT (out), 16 COMP (out), 17 FB (in), 18 VRAMP (in), 19 PVDD (power), 20 VEXT (out)

## MCP1631VHV-500E/SS
designator U?
High-Speed, PWM, 2MHz, Voltage Mode, 20-Pin SSOP 208mil, Extended Temperature; DatasheetVersion: revB, Oct-2008; PackageVersion: revBB, Aug-2009; PackageReference: SSOP-SS20; PackageDescription: 20-Lead Plastic Shrink Small Outline (SS) - 5.3mm Body [SSOP]; Code_JEDEC: MO-150; ComponentLink1Description: Manufacturer URL; ComponentLink1URL: http://www.microchip.com/; ComponentLink2Description: Datasheet; ComponentLink2URL: http://ww1.microchip.com/downloads/en/DeviceDoc/22063b.pdf; ComponentLink3Description: Package Specification; ComponentLink3URL: http://www.microchip.com/stellent/groups/techpub_sg/documents/packagingspec/en012702.pdf
footprint SSOP-SS20_N (SOP, 20-Leads, Body 7.2x5.2mm, Pitch 0.65mm, IPC Medium Density)
footprint SSOP-SS20_L (SOP, 20-Leads, Body 7.2x5.2mm, Pitch 0.65mm, IPC High Density)
footprint SSOP-SS20_M (SOP, 20-Leads, Body 7.2x5.2mm, Pitch 0.65mm, IPC Low Density)
pins: 1 PGND (power), 2 ~{SHDN} (in), 3 OSCIN (in), 4 ~{OSC}DIS (in), 5 OVIN (in), 6 VREF (in), 7 AGND (power), 8 NC, 9 NC, 10 VIN (power), 11 AVDD_OUT (out), 12 VSIN (in), 13 ISIN (in), 14 VSOUT (out), 15 ISOUT (out), 16 COMP (out), 17 FB (in), 18 VRAMP (in), 19 PVDD (power), 20 VEXT (out)

## MCP1631VHV-500E/ST
designator U?
High-Speed, PWM, 2MHz, Voltage Mode, 20-Pin TSSOP, Extended Temperature; DatasheetVersion: revB, Oct-2008; PackageVersion: revBB, Aug-2009; PackageReference: TSSOP-ST20; PackageDescription: 20-Lead Plastic Thin Shrink Small Outline (ST) - 4.4mm Body [TSSOP]; Code_JEDEC: MO-153-AC; ComponentLink1Description: Manufacturer URL; ComponentLink1URL: http://www.microchip.com/; ComponentLink2Description: Datasheet; ComponentLink2URL: http://ww1.microchip.com/downloads/en/DeviceDoc/22063b.pdf; ComponentLink3Description: Package Specification; ComponentLink3URL: http://www.microchip.com/stellent/groups/techpub_sg/documents/packagingspec/en012702.pdf
footprint TSSOP-ST20_N (TSOP, 20-Leads, Body 6.5x4.4mm, Pitch 0.65mm, IPC Medium Density)
footprint TSSOP-ST20_L (TSOP, 20-Leads, Body 6.5x4.4mm, Pitch 0.65mm, IPC High Density)
footprint TSSOP-ST20_M (TSOP, 20-Leads, Body 6.5x4.4mm, Pitch 0.65mm, IPC Low Density)
pins: 1 PGND (power), 2 ~{SHDN} (in), 3 OSCIN (in), 4 ~{OSC}DIS (in), 5 OVIN (in), 6 VREF (in), 7 AGND (power), 8 NC, 9 NC, 10 VIN (power), 11 AVDD_OUT (out), 12 VSIN (in), 13 ISIN (in), 14 VSOUT (out), 15 ISOUT (out), 16 COMP (out), 17 FB (in), 18 VRAMP (in), 19 PVDD (power), 20 VEXT (out)

## MCP1631VHVT-330E/SS
designator U?
High-Speed, PWM, 2MHz, Voltage Mode, 20-Pin SSOP 208mil, Extended Temperature, Tape and Reel; DatasheetVersion: revB, Oct-2008; PackageVersion: revBB, Aug-2009; PackageReference: SSOP-SS20; PackageDescription: 20-Lead Plastic Shrink Small Outline (SS) - 5.3mm Body [SSOP]; Code_JEDEC: MO-150; ComponentLink1Description: Manufacturer URL; ComponentLink1URL: http://www.microchip.com/; ComponentLink2Description: Datasheet; ComponentLink2URL: http://ww1.microchip.com/downloads/en/DeviceDoc/22063b.pdf; ComponentLink3Description: Package Specification; ComponentLink3URL: http://www.microchip.com/stellent/groups/techpub_sg/documents/packagingspec/en012702.pdf
footprint SSOP-SS20_N (SOP, 20-Leads, Body 7.2x5.2mm, Pitch 0.65mm, IPC Medium Density)
footprint SSOP-SS20_L (SOP, 20-Leads, Body 7.2x5.2mm, Pitch 0.65mm, IPC High Density)
footprint SSOP-SS20_M (SOP, 20-Leads, Body 7.2x5.2mm, Pitch 0.65mm, IPC Low Density)
pins: 1 PGND (power), 2 ~{SHDN} (in), 3 OSCIN (in), 4 ~{OSC}DIS (in), 5 OVIN (in), 6 VREF (in), 7 AGND (power), 8 NC, 9 NC, 10 VIN (power), 11 AVDD_OUT (out), 12 VSIN (in), 13 ISIN (in), 14 VSOUT (out), 15 ISOUT (out), 16 COMP (out), 17 FB (in), 18 VRAMP (in), 19 PVDD (power), 20 VEXT (out)

## MCP1631VHVT-330E/ST
designator U?
High-Speed, PWM, 2MHz, Voltage Mode, 20-Pin TSSOP, Extended Temperature, Tape and Reel; DatasheetVersion: revB, Oct-2008; PackageVersion: revBB, Aug-2009; PackageReference: TSSOP-ST20; PackageDescription: 20-Lead Plastic Thin Shrink Small Outline (ST) - 4.4mm Body [TSSOP]; Code_JEDEC: MO-153-AC; ComponentLink1Description: Manufacturer URL; ComponentLink1URL: http://www.microchip.com/; ComponentLink2Description: Datasheet; ComponentLink2URL: http://ww1.microchip.com/downloads/en/DeviceDoc/22063b.pdf; ComponentLink3Description: Package Specification; ComponentLink3URL: http://www.microchip.com/stellent/groups/techpub_sg/documents/packagingspec/en012702.pdf
footprint TSSOP-ST20_N (TSOP, 20-Leads, Body 6.5x4.4mm, Pitch 0.65mm, IPC Medium Density)
footprint TSSOP-ST20_L (TSOP, 20-Leads, Body 6.5x4.4mm, Pitch 0.65mm, IPC High Density)
footprint TSSOP-ST20_M (TSOP, 20-Leads, Body 6.5x4.4mm, Pitch 0.65mm, IPC Low Density)
pins: 1 PGND (power), 2 ~{SHDN} (in), 3 OSCIN (in), 4 ~{OSC}DIS (in), 5 OVIN (in), 6 VREF (in), 7 AGND (power), 8 NC, 9 NC, 10 VIN (power), 11 AVDD_OUT (out), 12 VSIN (in), 13 ISIN (in), 14 VSOUT (out), 15 ISOUT (out), 16 COMP (out), 17 FB (in), 18 VRAMP (in), 19 PVDD (power), 20 VEXT (out)

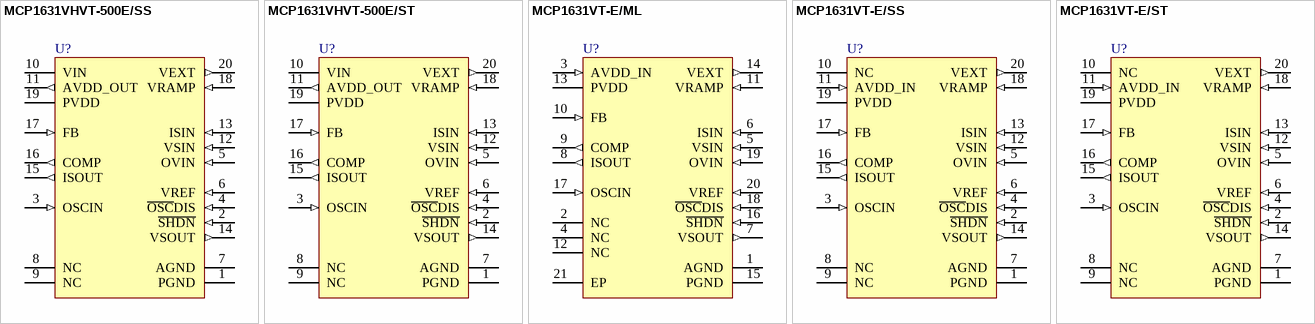
[diagram p1: symbols MCP1631VHVT-500E/SS to MCP1631VT-E/ST]

## MCP1631VHVT-500E/SS
designator U?
High-Speed, PWM, 2MHz, Voltage Mode, 20-Pin SSOP 208mil, Extended Temperature, Tape and Reel; DatasheetVersion: revB, Oct-2008; PackageVersion: revBB, Aug-2009; PackageReference: SSOP-SS20; PackageDescription: 20-Lead Plastic Shrink Small Outline (SS) - 5.3mm Body [SSOP]; Code_JEDEC: MO-150; ComponentLink1Description: Manufacturer URL; ComponentLink1URL: http://www.microchip.com/; ComponentLink2Description: Datasheet; ComponentLink2URL: http://ww1.microchip.com/downloads/en/DeviceDoc/22063b.pdf; ComponentLink3Description: Package Specification; ComponentLink3URL: http://www.microchip.com/stellent/groups/techpub_sg/documents/packagingspec/en012702.pdf
footprint SSOP-SS20_N (SOP, 20-Leads, Body 7.2x5.2mm, Pitch 0.65mm, IPC Medium Density)
footprint SSOP-SS20_L (SOP, 20-Leads, Body 7.2x5.2mm, Pitch 0.65mm, IPC High Density)
footprint SSOP-SS20_M (SOP, 20-Leads, Body 7.2x5.2mm, Pitch 0.65mm, IPC Low Density)
pins: 1 PGND (power), 2 ~{SHDN} (in), 3 OSCIN (in), 4 ~{OSC}DIS (in), 5 OVIN (in), 6 VREF (in), 7 AGND (power), 8 NC, 9 NC, 10 VIN (power), 11 AVDD_OUT (out), 12 VSIN (in), 13 ISIN (in), 14 VSOUT (out), 15 ISOUT (out), 16 COMP (out), 17 FB (in), 18 VRAMP (in), 19 PVDD (power), 20 VEXT (out)

## MCP1631VHVT-500E/ST
designator U?
High-Speed, PWM, 2MHz, Voltage Mode, 20-Pin TSSOP, Extended Temperature, Tape and Reel; DatasheetVersion: revB, Oct-2008; PackageVersion: revBB, Aug-2009; PackageReference: TSSOP-ST20; PackageDescription: 20-Lead Plastic Thin Shrink Small Outline (ST) - 4.4mm Body [TSSOP]; Code_JEDEC: MO-153-AC; ComponentLink1Description: Manufacturer URL; ComponentLink1URL: http://www.microchip.com/; ComponentLink2Description: Datasheet; ComponentLink2URL: http://ww1.microchip.com/downloads/en/DeviceDoc/22063b.pdf; ComponentLink3Description: Package Specification; ComponentLink3URL: http://www.microchip.com/stellent/groups/techpub_sg/documents/packagingspec/en012702.pdf
footprint TSSOP-ST20_N (TSOP, 20-Leads, Body 6.5x4.4mm, Pitch 0.65mm, IPC Medium Density)
footprint TSSOP-ST20_L (TSOP, 20-Leads, Body 6.5x4.4mm, Pitch 0.65mm, IPC High Density)
footprint TSSOP-ST20_M (TSOP, 20-Leads, Body 6.5x4.4mm, Pitch 0.65mm, IPC Low Density)
pins: 1 PGND (power), 2 ~{SHDN} (in), 3 OSCIN (in), 4 ~{OSC}DIS (in), 5 OVIN (in), 6 VREF (in), 7 AGND (power), 8 NC, 9 NC, 10 VIN (power), 11 AVDD_OUT (out), 12 VSIN (in), 13 ISIN (in), 14 VSOUT (out), 15 ISOUT (out), 16 COMP (out), 17 FB (in), 18 VRAMP (in), 19 PVDD (power), 20 VEXT (out)

## MCP1631VT-E/ML
designator U?
High-Speed, PWM, 2MHz, Voltage Mode Control, 20-Pin QFN, Extended Temperature, Tape and Reel; DatasheetVersion: revB, Oct-2008; PackageVersion: revBB, Aug-2009; PackageReference: QFN-ML20; PackageDescription: 20-Lead Plastic Quad Flat, No Lead Package (ML) - 4x4x0.9 mm Body [QFN]; ComponentLink1Description: Manufacturer URL; ComponentLink1URL: http://www.microchip.com/; ComponentLink2Description: Datasheet; ComponentLink2URL: http://ww1.microchip.com/downloads/en/DeviceDoc/22063b.pdf; ComponentLink3Description: Package Specification; ComponentLink3URL: http://www.microchip.com/stellent/groups/techpub_sg/documents/packagingspec/en012702.pdf
footprint QFN-ML20_N (QFN, 20-Leads, Body 4x4mm, Pitch 0.5mm, Thermal Pad 2.8x2.8mm, IPC Medium Density)
footprint QFN-ML20_L (QFN, 20-Leads, Body 4x4mm, Pitch 0.5mm, Thermal Pad 2.8x2.8mm, IPC High Density)
footprint QFN-ML20_M (QFN, 20-Leads, Body 4x4mm, Pitch 0.5mm, Thermal Pad 2.8x2.8mm, IPC Low Density)
pins: 1 AGND (power), 2 NC, 3 AVDD_IN (in), 4 NC, 5 VSIN (in), 6 ISIN (in), 7 VSOUT (out), 8 ISOUT (out), 9 COMP (out), 10 FB (in), 11 VRAMP (in), 12 NC, 13 PVDD (power), 14 VEXT (out), 15 PGND (power), 16 ~{SHDN} (in), 17 OSCIN (in), 18 ~{OSC}DIS (in), 19 OVIN (in), 20 VREF (in), 21 EP (power)

## MCP1631VT-E/SS
designator U?
High-Speed, PWM, 2MHz, Voltage Mode Control, 20-Pin SSOP 208mil, Extended Temperature, Tape and Reel; DatasheetVersion: revB, Oct-2008; PackageVersion: revBB, Aug-2009; PackageReference: SSOP-SS20; PackageDescription: 20-Lead Plastic Shrink Small Outline (SS) - 5.3mm Body [SSOP]; Code_JEDEC: MO-150; ComponentLink1Description: Manufacturer URL; ComponentLink1URL: http://www.microchip.com/; ComponentLink2Description: Datasheet; ComponentLink2URL: http://ww1.microchip.com/downloads/en/DeviceDoc/22063b.pdf; ComponentLink3Description: Package Specification; ComponentLink3URL: http://www.microchip.com/stellent/groups/techpub_sg/documents/packagingspec/en012702.pdf
footprint SSOP-SS20_N (SOP, 20-Leads, Body 7.2x5.2mm, Pitch 0.65mm, IPC Medium Density)
footprint SSOP-SS20_L (SOP, 20-Leads, Body 7.2x5.2mm, Pitch 0.65mm, IPC High Density)
footprint SSOP-SS20_M (SOP, 20-Leads, Body 7.2x5.2mm, Pitch 0.65mm, IPC Low Density)
pins: 1 PGND (power), 2 ~{SHDN} (in), 3 OSCIN (in), 4 ~{OSC}DIS (in), 5 OVIN (in), 6 VREF (in), 7 AGND (power), 8 NC, 9 NC, 10 NC, 11 AVDD_IN (in), 12 VSIN (in), 13 ISIN (in), 14 VSOUT (out), 15 ISOUT (out), 16 COMP (out), 17 FB (in), 18 VRAMP (in), 19 PVDD (power), 20 VEXT (out)

## MCP1631VT-E/ST
designator U?
High-Speed, PWM, 2MHz, Voltage Mode Control, 20-Pin TSSOP, Extended Temperature, Tape and Reel; DatasheetVersion: revB, Oct-2008; PackageVersion: revBB, Aug-2009; PackageReference: TSSOP-ST20; PackageDescription: 20-Lead Plastic Thin Shrink Small Outline (ST) - 4.4mm Body [TSSOP]; Code_JEDEC: MO-153-AC; ComponentLink1Description: Manufacturer URL; ComponentLink1URL: http://www.microchip.com/; ComponentLink2Description: Datasheet; ComponentLink2URL: http://ww1.microchip.com/downloads/en/DeviceDoc/22063b.pdf; ComponentLink3Description: Package Specification; ComponentLink3URL: http://www.microchip.com/stellent/groups/techpub_sg/documents/packagingspec/en012702.pdf
footprint TSSOP-ST20_N (TSOP, 20-Leads, Body 6.5x4.4mm, Pitch 0.65mm, IPC Medium Density)
footprint TSSOP-ST20_L (TSOP, 20-Leads, Body 6.5x4.4mm, Pitch 0.65mm, IPC High Density)
footprint TSSOP-ST20_M (TSOP, 20-Leads, Body 6.5x4.4mm, Pitch 0.65mm, IPC Low Density)
pins: 1 PGND (power), 2 ~{SHDN} (in), 3 OSCIN (in), 4 ~{OSC}DIS (in), 5 OVIN (in), 6 VREF (in), 7 AGND (power), 8 NC, 9 NC, 10 NC, 11 AVDD_IN (in), 12 VSIN (in), 13 ISIN (in), 14 VSOUT (out), 15 ISOUT (out), 16 COMP (out), 17 FB (in), 18 VRAMP (in), 19 PVDD (power), 20 VEXT (out)